# Altium schematic symbol library ACS711EEXLT-15AB-T.SCHLIB: 1 symbol
Pins are listed as number, name and electrical type; pins without a type are passive.

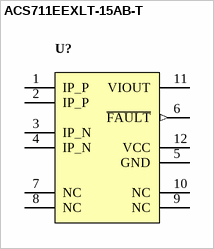
[diagram p0: symbol ACS711EEXLT-15AB-T]

## ACS711EEXLT-15AB-T
designator U?
pins: 1 IP_P, 2 IP_P, 3 IP_N, 4 IP_N, 5 GND, 6 ~{FAULT} (out), 7 NC, 8 NC, 9 NC, 10 NC, 11 VIOUT, 12 VCC